# Altium footprint library XCVR_E73-2G4M04S1B.PcbLib: 1 footprints
Each footprint in its own frame and in the unit in brackets; x right, y up, seen from the top. Pads: shape width x height; smd on the part's side, far side on the other; paste and mask are expansions set on the pad; w line width, h text height; cw(c..) or ccw(c..) is an arc to the next point about the centre after c.
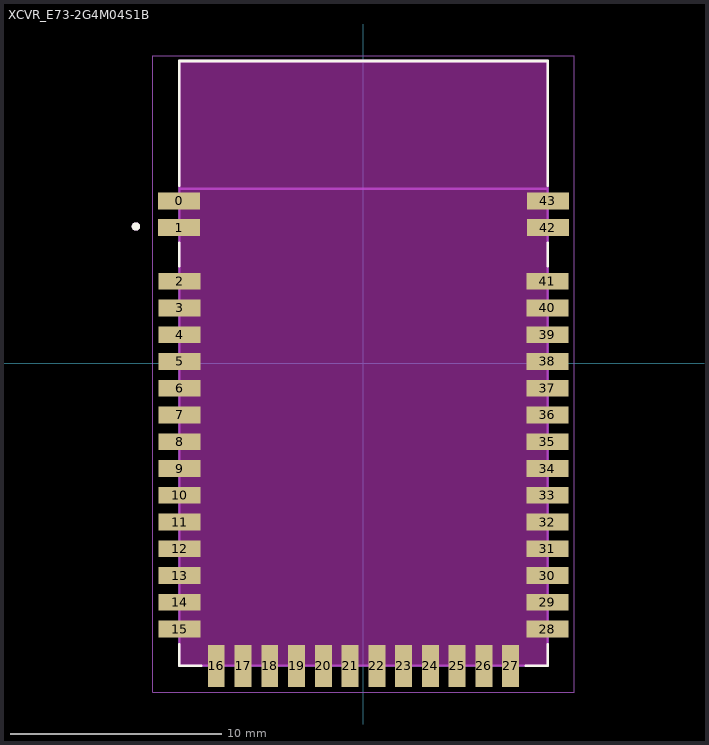
[diagram p0: the footprint, top view; thin cyan lines are the x and y axes]

## XCVR_E73-2G4M04S1B [mm]
pads (44):
  rect 2x0.8 smd: 0(-8.75,7.715) 1(-8.75,6.445) 2(-8.73,3.905) 3(-8.73,2.635) 4(-8.73,1.365) 5(-8.73,0.095) 6(-8.73,-1.175) 7(-8.73,-2.445) 8(-8.73,-3.715) 9(-8.73,-4.985) 10(-8.73,-6.255) 11(-8.73,-7.525) 12(-8.73,-8.795) 13(-8.73,-10.065) 14(-8.73,-11.335) 15(-8.73,-12.605) 28(8.73,-12.605) 29(8.73,-11.335) 30(8.73,-10.065) 31(8.73,-8.795) 32(8.73,-7.525) 33(8.73,-6.255) 34(8.73,-4.985) 35(8.73,-3.715) 36(8.73,-2.445) 37(8.73,-1.175) 38(8.73,0.095) 39(8.73,1.365) 40(8.73,2.635) 41(8.73,3.905) 42(8.75,6.445) 43(8.75,7.715)
  rect 0.8x2 smd: 16(-6.985,-14.35) 17(-5.715,-14.35) 18(-4.445,-14.35) 19(-3.175,-14.35) 20(-1.905,-14.35) 21(-0.635,-14.35) 22(0.635,-14.35) 23(1.905,-14.35) 24(3.175,-14.35) 25(4.445,-14.35) 26(5.715,-14.35) 27(6.985,-14.35)
Top Overlay:
  circle w0.2: c-10.8,6.5 r0.1
  lines w0.127: -8.75,-13.325 -8.75,-14.35 -7.705,-14.35 ; -8.75,4.625 -8.75,5.725 ; -8.75,8.435 -8.75,14.35 8.75,14.35 8.75,8.435 ; 7.705,-14.35 8.75,-14.35 8.75,-13.325 ; 8.75,4.625 8.75,5.725
Keep-Out Layer:
  region: 8.75,8.115 7.75,8.115 7.75,6.045 8.75,6.045 8.75,4.305 7.73,4.305 7.73,-13.3 -7.73,-13.3 -7.73,4.305 -8.75,4.305 -8.75,6.045 -7.75,6.045 -7.75,8.1 -8.75,8.1 -8.75,14.35 8.75,14.35
  region: 8.75,-14.35 -8.75,-14.35 -8.75,14.35 8.75,14.35
Mechanical 13:
  circle w0.2: c-10.8,6.5 r0.1
  lines w0.127: -8.75,8.288 -8.75,14.35 8.75,14.35 8.75,8.288 ; -8.75,8.288 -8.75,-14.35 8.75,-14.35 8.75,8.288 ; -8.75,8.288 8.75,8.288
  text "Avoid traces in Bottom Layer" at -5,-2 h0.64
  text "under the module" at -5,-3 h0.64
Mechanical 15:
  lines w0.05: -10,-15.6 -10,14.6 10,14.6 10,-15.6 -10,-15.6